# EAGLE library part TPS63031DSKR (library TPS63031DSKR)
High Efficient Single Inductor Buck-Boost Converter with 1-A Switches Check availability <https://pricing.snapeda.com/parts/TPS63031DSKR/Texas%20Instruments/view-part?ref=eda>
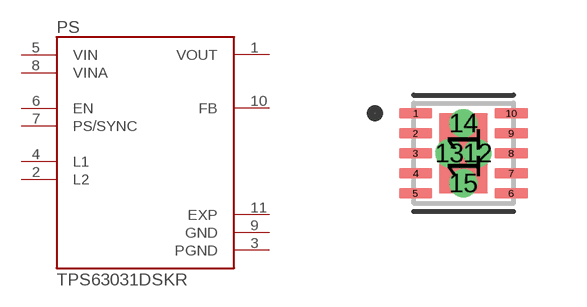
[diagram p0: symbol with the pads of SON50P250X250X80-11N; footprint SON50P250X250X80-11N]

Designator prefix PS

## TPS63031DSKR (Availability: In Stock; Check_prices: https://www.snapeda.com/parts/TPS63031DSKR/Texas+Instruments/view-part/?ref=eda; Description: High Efficient Single Inductor Buck-Boost Converter with 1-A Switches; MF: Texas Instruments; MP: TPS63031DSKR; Package: WSON-10 Texas Instruments; Price: None; Purchase-URL: https://www.snapeda.com/api/url_track_click_mouser/?unipart_id=52270&manufacturer=Texas Instruments&part_name=TPS63031DSKR&search_term=tps63031dskr; SnapEDA_Link: https://www.snapeda.com/parts/TPS63031DSKR/Texas+Instruments/view-part/?ref=snap)  [SON50P250X250X80-11N]
1  VOUT  out
2  L2  in
3  PGND  pwr
4  L1  in
5  VIN  in
6  EN  in
7  PS/SYNC  in
8  VINA  in
9  GND  pwr
10  FB  in
11  EXP  pas

## Footprint SON50P250X250X80-11N (pad centres in mm)
smd 0.84 x 0.27: 1 -1.195,1; 2 -1.195,0.5; 3 -1.195,0; 4 -1.195,-0.5; 5 -1.195,-1; 6 1.195,-1; 7 1.195,-0.5; 8 1.195,0; 9 1.195,0.5; 10 1.195,1
smd 1.2 x 2: 11 0,0
drill 0.2 pad 0.3: 12 0.35,0; 13 -0.35,0; 14 0,0.75; 15 0,-0.75